# Altium schematic symbol library Vishay Lite-On Discrete Diode.SchLib: 290 symbols (part 3 of 3)
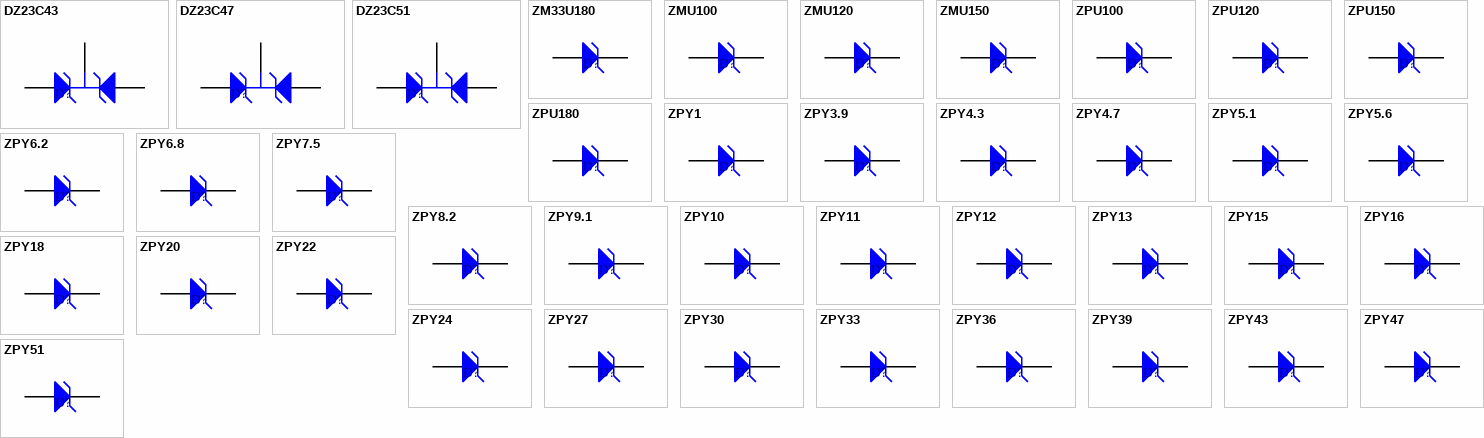
[diagram p9: symbols DZ23C43 to ZPY51]

## ZMU120
designator D?
High-Voltage Power Zener Diode; Published: 8-Jun-2000; LatestRevisionDate: 19-Mar-2004; LatestRevisionNote: Silkscreen size reduced.; DatasheetDocument: 16-May-1997; PackageDocument: May-1997; PackageReference: MELF; Publisher: Altium Limited; ComponentLink1Description: Manufacturer Link; ComponentLink1URL: http://www.vishay.com/
footprint MELF (Metal Electrode Face (MELF) Diode; Body 5 x 2.5 mm (LxDia))
simulation model ZMU120 (SUBCKT)
signal-integrity model ZMU120
pins: 1 A, 2 K

## ZMU150
designator D?
High-Voltage Power Zener Diode; Published: 8-Jun-2000; LatestRevisionDate: 19-Mar-2004; LatestRevisionNote: Silkscreen size reduced.; DatasheetDocument: 16-May-1997; PackageDocument: May-1997; PackageReference: MELF; Publisher: Altium Limited; ComponentLink1Description: Manufacturer Link; ComponentLink1URL: http://www.vishay.com/
footprint MELF (Metal Electrode Face (MELF) Diode; Body 5 x 2.5 mm (LxDia))
simulation model ZMU150 (SUBCKT)
signal-integrity model ZMU150
pins: 1 A, 2 K

## ZPU100
designator D?
High-Voltage Power Zener Diode; Published: 8-Jun-2000; LatestRevisionDate: 17-Jul-2002; LatestRevisionNote: Re-released for DXP Platform.; DatasheetDocument: 16-May-1997; PackageReference: DO-41A; Publisher: Altium Limited; Code_JEDEC: DO-204-AM; ComponentLink1Description: Manufacturer Link; ComponentLink1URL: http://www.vishay.com/
footprint DO-41A (Diode, Axial; Body 3.9 x 2.5 mm (LxDia. max), Lead Dia. 0.8 mm (max))
simulation model ZPU100 (SUBCKT)
signal-integrity model ZPU100
pins: 1 A, 2 K

## ZPU120
designator D?
High-Voltage Power Zener Diode; Published: 8-Jun-2000; LatestRevisionDate: 17-Jul-2002; LatestRevisionNote: Re-released for DXP Platform.; DatasheetDocument: 16-May-1997; PackageReference: DO-41A; Publisher: Altium Limited; Code_JEDEC: DO-204-AM; ComponentLink1Description: Manufacturer Link; ComponentLink1URL: http://www.vishay.com/
footprint DO-41A (Diode, Axial; Body 3.9 x 2.5 mm (LxDia. max), Lead Dia. 0.8 mm (max))
simulation model ZPU120 (SUBCKT)
signal-integrity model ZPU120
pins: 1 A, 2 K

## ZPU150
designator D?
High-Voltage Power Zener Diode; Published: 8-Jun-2000; LatestRevisionDate: 17-Jul-2002; LatestRevisionNote: Re-released for DXP Platform.; DatasheetDocument: 16-May-1997; PackageReference: DO-41A; Publisher: Altium Limited; Code_JEDEC: DO-204-AM; ComponentLink1Description: Manufacturer Link; ComponentLink1URL: http://www.vishay.com/
footprint DO-41A (Diode, Axial; Body 3.9 x 2.5 mm (LxDia. max), Lead Dia. 0.8 mm (max))
simulation model ZPU150 (SUBCKT)
signal-integrity model ZPU150
pins: 1 A, 2 K

## ZPU180
designator D?
High-Voltage Power Zener Diode; Published: 8-Jun-2000; LatestRevisionDate: 17-Jul-2002; LatestRevisionNote: Re-released for DXP Platform.; DatasheetDocument: 16-May-1997; PackageReference: DO-41A; Publisher: Altium Limited; Code_JEDEC: DO-204-AM; ComponentLink1Description: Manufacturer Link; ComponentLink1URL: http://www.vishay.com/
footprint DO-41A (Diode, Axial; Body 3.9 x 2.5 mm (LxDia. max), Lead Dia. 0.8 mm (max))
simulation model ZPU180 (SUBCKT)
signal-integrity model ZPU180
pins: 1 A, 2 K

## ZPY1
designator D?
1.3 Watt Power Zener Diode; Published: 8-Jun-2000; LatestRevisionDate: 17-Jul-2002; LatestRevisionNote: Re-released for DXP Platform.; DatasheetDocument: 16-May-1997; PackageReference: DO-41B; Publisher: Altium Limited; Code_JEDEC: DO-204-AL; ComponentLink1Description: Manufacturer Link; ComponentLink1URL: http://www.vishay.com/
footprint DO-41B (Diode, Axial; Body 5.2 x 2.7 mm (LxDia. max), Lead Dia. 0.86 mm (max))
simulation model ZPY1 (SUBCKT)
signal-integrity model ZPY1
pins: 1 A, 2 K

## ZPY3.9
designator D?
1.3 Watt Power Zener Diode; Published: 8-Jun-2000; LatestRevisionDate: 17-Jul-2002; LatestRevisionNote: Re-released for DXP Platform.; DatasheetDocument: 16-May-1997; PackageReference: DO-41B; Publisher: Altium Limited; Code_JEDEC: DO-204-AL; ComponentLink1Description: Manufacturer Link; ComponentLink1URL: http://www.vishay.com/
footprint DO-41B (Diode, Axial; Body 5.2 x 2.7 mm (LxDia. max), Lead Dia. 0.86 mm (max))
simulation model ZPY3_9 (SUBCKT)
signal-integrity model ZPY3.9
pins: 1 A, 2 K

## ZPY4.3
designator D?
1.3 Watt Power Zener Diode; Published: 8-Jun-2000; LatestRevisionDate: 17-Jul-2002; LatestRevisionNote: Re-released for DXP Platform.; DatasheetDocument: 16-May-1997; PackageReference: DO-41B; Publisher: Altium Limited; Code_JEDEC: DO-204-AL; ComponentLink1Description: Manufacturer Link; ComponentLink1URL: http://www.vishay.com/
footprint DO-41B (Diode, Axial; Body 5.2 x 2.7 mm (LxDia. max), Lead Dia. 0.86 mm (max))
simulation model ZPY4_3 (SUBCKT)
signal-integrity model ZPY4.3
pins: 1 A, 2 K

## ZPY4.7
designator D?
1.3 Watt Power Zener Diode; Published: 8-Jun-2000; LatestRevisionDate: 17-Jul-2002; LatestRevisionNote: Re-released for DXP Platform.; DatasheetDocument: 16-May-1997; PackageReference: DO-41B; Publisher: Altium Limited; Code_JEDEC: DO-204-AL; ComponentLink1Description: Manufacturer Link; ComponentLink1URL: http://www.vishay.com/
footprint DO-41B (Diode, Axial; Body 5.2 x 2.7 mm (LxDia. max), Lead Dia. 0.86 mm (max))
simulation model ZPY4_7 (SUBCKT)
signal-integrity model ZPY4.7
pins: 1 A, 2 K

## ZPY5.1
designator D?
1.3 Watt Power Zener Diode; Published: 8-Jun-2000; LatestRevisionDate: 17-Jul-2002; LatestRevisionNote: Re-released for DXP Platform.; DatasheetDocument: 16-May-1997; PackageReference: DO-41B; Publisher: Altium Limited; Code_JEDEC: DO-204-AL; ComponentLink1Description: Manufacturer Link; ComponentLink1URL: http://www.vishay.com/
footprint DO-41B (Diode, Axial; Body 5.2 x 2.7 mm (LxDia. max), Lead Dia. 0.86 mm (max))
simulation model ZPY5_1 (SUBCKT)
signal-integrity model ZPY5.1
pins: 1 A, 2 K

## ZPY5.6
designator D?
1.3 Watt Power Zener Diode; Published: 8-Jun-2000; LatestRevisionDate: 17-Jul-2002; LatestRevisionNote: Re-released for DXP Platform.; DatasheetDocument: 16-May-1997; PackageReference: DO-41B; Publisher: Altium Limited; Code_JEDEC: DO-204-AL; ComponentLink1Description: Manufacturer Link; ComponentLink1URL: http://www.vishay.com/
footprint DO-41B (Diode, Axial; Body 5.2 x 2.7 mm (LxDia. max), Lead Dia. 0.86 mm (max))
simulation model ZPY5_6 (SUBCKT)
signal-integrity model ZPY5.6
pins: 1 A, 2 K

## ZPY6.2
designator D?
1.3 Watt Power Zener Diode; Published: 8-Jun-2000; LatestRevisionDate: 17-Jul-2002; LatestRevisionNote: Re-released for DXP Platform.; DatasheetDocument: 16-May-1997; PackageReference: DO-41B; Publisher: Altium Limited; Code_JEDEC: DO-204-AL; ComponentLink1Description: Manufacturer Link; ComponentLink1URL: http://www.vishay.com/
footprint DO-41B (Diode, Axial; Body 5.2 x 2.7 mm (LxDia. max), Lead Dia. 0.86 mm (max))
simulation model ZPY6_2 (SUBCKT)
signal-integrity model ZPY6.2
pins: 1 A, 2 K

## ZPY6.8
designator D?
1.3 Watt Power Zener Diode; Published: 8-Jun-2000; LatestRevisionDate: 17-Jul-2002; LatestRevisionNote: Re-released for DXP Platform.; DatasheetDocument: 16-May-1997; PackageReference: DO-41B; Publisher: Altium Limited; Code_JEDEC: DO-204-AL; ComponentLink1Description: Manufacturer Link; ComponentLink1URL: http://www.vishay.com/
footprint DO-41B (Diode, Axial; Body 5.2 x 2.7 mm (LxDia. max), Lead Dia. 0.86 mm (max))
simulation model ZPY6_8 (SUBCKT)
signal-integrity model ZPY6.8
pins: 1 A, 2 K

## ZPY7.5
designator D?
1.3 Watt Power Zener Diode; Published: 8-Jun-2000; LatestRevisionDate: 17-Jul-2002; LatestRevisionNote: Re-released for DXP Platform.; DatasheetDocument: 16-May-1997; PackageReference: DO-41B; Publisher: Altium Limited; Code_JEDEC: DO-204-AL; ComponentLink1Description: Manufacturer Link; ComponentLink1URL: http://www.vishay.com/
footprint DO-41B (Diode, Axial; Body 5.2 x 2.7 mm (LxDia. max), Lead Dia. 0.86 mm (max))
simulation model ZPY7_5 (SUBCKT)
signal-integrity model ZPY7.5
pins: 1 A, 2 K

## ZPY8.2
designator D?
1.3 Watt Power Zener Diode; Published: 8-Jun-2000; LatestRevisionDate: 17-Jul-2002; LatestRevisionNote: Re-released for DXP Platform.; DatasheetDocument: 16-May-1997; PackageReference: DO-41B; Publisher: Altium Limited; Code_JEDEC: DO-204-AL; ComponentLink1Description: Manufacturer Link; ComponentLink1URL: http://www.vishay.com/
footprint DO-41B (Diode, Axial; Body 5.2 x 2.7 mm (LxDia. max), Lead Dia. 0.86 mm (max))
simulation model ZPY8_2 (SUBCKT)
signal-integrity model ZPY8.2
pins: 1 A, 2 K

## ZPY9.1
designator D?
1.3 Watt Power Zener Diode; Published: 8-Jun-2000; LatestRevisionDate: 17-Jul-2002; LatestRevisionNote: Re-released for DXP Platform.; DatasheetDocument: 16-May-1997; PackageReference: DO-41B; Publisher: Altium Limited; Code_JEDEC: DO-204-AL; ComponentLink1Description: Manufacturer Link; ComponentLink1URL: http://www.vishay.com/
footprint DO-41B (Diode, Axial; Body 5.2 x 2.7 mm (LxDia. max), Lead Dia. 0.86 mm (max))
simulation model ZPY9_1 (SUBCKT)
signal-integrity model ZPY9.1
pins: 1 A, 2 K

## ZPY10
designator D?
1.3 Watt Power Zener Diode; Published: 8-Jun-2000; LatestRevisionDate: 17-Jul-2002; LatestRevisionNote: Re-released for DXP Platform.; DatasheetDocument: 16-May-1997; PackageReference: DO-41B; Publisher: Altium Limited; Code_JEDEC: DO-204-AL; ComponentLink1Description: Manufacturer Link; ComponentLink1URL: http://www.vishay.com/
footprint DO-41B (Diode, Axial; Body 5.2 x 2.7 mm (LxDia. max), Lead Dia. 0.86 mm (max))
simulation model ZPY10 (SUBCKT)
signal-integrity model ZPY10
pins: 1 A, 2 K

## ZPY11
designator D?
1.3 Watt Power Zener Diode; Published: 8-Jun-2000; LatestRevisionDate: 17-Jul-2002; LatestRevisionNote: Re-released for DXP Platform.; DatasheetDocument: 16-May-1997; PackageReference: DO-41B; Publisher: Altium Limited; Code_JEDEC: DO-204-AL; ComponentLink1Description: Manufacturer Link; ComponentLink1URL: http://www.vishay.com/
footprint DO-41B (Diode, Axial; Body 5.2 x 2.7 mm (LxDia. max), Lead Dia. 0.86 mm (max))
simulation model ZPY11 (SUBCKT)
signal-integrity model ZPY11
pins: 1 A, 2 K

## ZPY12
designator D?
1.3 Watt Power Zener Diode; Published: 8-Jun-2000; LatestRevisionDate: 17-Jul-2002; LatestRevisionNote: Re-released for DXP Platform.; DatasheetDocument: 16-May-1997; PackageReference: DO-41B; Publisher: Altium Limited; Code_JEDEC: DO-204-AL; ComponentLink1Description: Manufacturer Link; ComponentLink1URL: http://www.vishay.com/
footprint DO-41B (Diode, Axial; Body 5.2 x 2.7 mm (LxDia. max), Lead Dia. 0.86 mm (max))
simulation model ZPY12 (SUBCKT)
signal-integrity model ZPY12
pins: 1 A, 2 K

## ZPY13
designator D?
1.3 Watt Power Zener Diode; Published: 8-Jun-2000; LatestRevisionDate: 17-Jul-2002; LatestRevisionNote: Re-released for DXP Platform.; DatasheetDocument: 16-May-1997; PackageReference: DO-41B; Publisher: Altium Limited; Code_JEDEC: DO-204-AL; ComponentLink1Description: Manufacturer Link; ComponentLink1URL: http://www.vishay.com/
footprint DO-41B (Diode, Axial; Body 5.2 x 2.7 mm (LxDia. max), Lead Dia. 0.86 mm (max))
simulation model ZPY13 (SUBCKT)
signal-integrity model ZPY13
pins: 1 A, 2 K

## ZPY15
designator D?
1.3 Watt Power Zener Diode; Published: 8-Jun-2000; LatestRevisionDate: 17-Jul-2002; LatestRevisionNote: Re-released for DXP Platform.; DatasheetDocument: 16-May-1997; PackageReference: DO-41B; Publisher: Altium Limited; Code_JEDEC: DO-204-AL; ComponentLink1Description: Manufacturer Link; ComponentLink1URL: http://www.vishay.com/
footprint DO-41B (Diode, Axial; Body 5.2 x 2.7 mm (LxDia. max), Lead Dia. 0.86 mm (max))
simulation model ZPY15 (SUBCKT)
signal-integrity model ZPY15
pins: 1 A, 2 K

## ZPY16
designator D?
1.3 Watt Power Zener Diode; Published: 8-Jun-2000; LatestRevisionDate: 17-Jul-2002; LatestRevisionNote: Re-released for DXP Platform.; DatasheetDocument: 16-May-1997; PackageReference: DO-41B; Publisher: Altium Limited; Code_JEDEC: DO-204-AL; ComponentLink1Description: Manufacturer Link; ComponentLink1URL: http://www.vishay.com/
footprint DO-41B (Diode, Axial; Body 5.2 x 2.7 mm (LxDia. max), Lead Dia. 0.86 mm (max))
simulation model ZPY16 (SUBCKT)
signal-integrity model ZPY16
pins: 1 A, 2 K

## ZPY18
designator D?
1.3 Watt Power Zener Diode; Published: 8-Jun-2000; LatestRevisionDate: 17-Jul-2002; LatestRevisionNote: Re-released for DXP Platform.; DatasheetDocument: 16-May-1997; PackageReference: DO-41B; Publisher: Altium Limited; Code_JEDEC: DO-204-AL; ComponentLink1Description: Manufacturer Link; ComponentLink1URL: http://www.vishay.com/
footprint DO-41B (Diode, Axial; Body 5.2 x 2.7 mm (LxDia. max), Lead Dia. 0.86 mm (max))
simulation model ZPY18 (SUBCKT)
signal-integrity model ZPY18
pins: 1 A, 2 K

## ZPY20
designator D?
1.3 Watt Power Zener Diode; Published: 8-Jun-2000; LatestRevisionDate: 17-Jul-2002; LatestRevisionNote: Re-released for DXP Platform.; DatasheetDocument: 16-May-1997; PackageReference: DO-41B; Publisher: Altium Limited; Code_JEDEC: DO-204-AL; ComponentLink1Description: Manufacturer Link; ComponentLink1URL: http://www.vishay.com/
footprint DO-41B (Diode, Axial; Body 5.2 x 2.7 mm (LxDia. max), Lead Dia. 0.86 mm (max))
simulation model ZPY20 (SUBCKT)
signal-integrity model ZPY20
pins: 1 A, 2 K

## ZPY22
designator D?
1.3 Watt Power Zener Diode; Published: 8-Jun-2000; LatestRevisionDate: 17-Jul-2002; LatestRevisionNote: Re-released for DXP Platform.; DatasheetDocument: 16-May-1997; PackageReference: DO-41B; Publisher: Altium Limited; Code_JEDEC: DO-204-AL; ComponentLink1Description: Manufacturer Link; ComponentLink1URL: http://www.vishay.com/
footprint DO-41B (Diode, Axial; Body 5.2 x 2.7 mm (LxDia. max), Lead Dia. 0.86 mm (max))
simulation model ZPY22 (SUBCKT)
signal-integrity model ZPY22
pins: 1 A, 2 K

## ZPY24
designator D?
1.3 Watt Power Zener Diode; Published: 8-Jun-2000; LatestRevisionDate: 17-Jul-2002; LatestRevisionNote: Re-released for DXP Platform.; DatasheetDocument: 16-May-1997; PackageReference: DO-41B; Publisher: Altium Limited; Code_JEDEC: DO-204-AL; ComponentLink1Description: Manufacturer Link; ComponentLink1URL: http://www.vishay.com/
footprint DO-41B (Diode, Axial; Body 5.2 x 2.7 mm (LxDia. max), Lead Dia. 0.86 mm (max))
simulation model ZPY24 (SUBCKT)
signal-integrity model ZPY24
pins: 1 A, 2 K

## ZPY27
designator D?
1.3 Watt Power Zener Diode; Published: 8-Jun-2000; LatestRevisionDate: 17-Jul-2002; LatestRevisionNote: Re-released for DXP Platform.; DatasheetDocument: 16-May-1997; PackageReference: DO-41B; Publisher: Altium Limited; Code_JEDEC: DO-204-AL; ComponentLink1Description: Manufacturer Link; ComponentLink1URL: http://www.vishay.com/
footprint DO-41B (Diode, Axial; Body 5.2 x 2.7 mm (LxDia. max), Lead Dia. 0.86 mm (max))
simulation model ZPY27 (SUBCKT)
signal-integrity model ZPY27
pins: 1 A, 2 K

## ZPY30
designator D?
1.3 Watt Power Zener Diode; Published: 8-Jun-2000; LatestRevisionDate: 17-Jul-2002; LatestRevisionNote: Re-released for DXP Platform.; DatasheetDocument: 16-May-1997; PackageReference: DO-41B; Publisher: Altium Limited; Code_JEDEC: DO-204-AL; ComponentLink1Description: Manufacturer Link; ComponentLink1URL: http://www.vishay.com/
footprint DO-41B (Diode, Axial; Body 5.2 x 2.7 mm (LxDia. max), Lead Dia. 0.86 mm (max))
simulation model ZPY30 (SUBCKT)
signal-integrity model ZPY30
pins: 1 A, 2 K

## ZPY33
designator D?
1.3 Watt Power Zener Diode; Published: 8-Jun-2000; LatestRevisionDate: 17-Jul-2002; LatestRevisionNote: Re-released for DXP Platform.; DatasheetDocument: 16-May-1997; PackageReference: DO-41B; Publisher: Altium Limited; Code_JEDEC: DO-204-AL; ComponentLink1Description: Manufacturer Link; ComponentLink1URL: http://www.vishay.com/
footprint DO-41B (Diode, Axial; Body 5.2 x 2.7 mm (LxDia. max), Lead Dia. 0.86 mm (max))
simulation model ZPY33 (SUBCKT)
signal-integrity model ZPY33
pins: 1 A, 2 K

## ZPY36
designator D?
1.3 Watt Power Zener Diode; Published: 8-Jun-2000; LatestRevisionDate: 17-Jul-2002; LatestRevisionNote: Re-released for DXP Platform.; DatasheetDocument: 16-May-1997; PackageReference: DO-41B; Publisher: Altium Limited; Code_JEDEC: DO-204-AL; ComponentLink1Description: Manufacturer Link; ComponentLink1URL: http://www.vishay.com/
footprint DO-41B (Diode, Axial; Body 5.2 x 2.7 mm (LxDia. max), Lead Dia. 0.86 mm (max))
simulation model ZPY36 (SUBCKT)
signal-integrity model ZPY36
pins: 1 A, 2 K

## ZPY39
designator D?
1.3 Watt Power Zener Diode; Published: 8-Jun-2000; LatestRevisionDate: 17-Jul-2002; LatestRevisionNote: Re-released for DXP Platform.; DatasheetDocument: 16-May-1997; PackageReference: DO-41B; Publisher: Altium Limited; Code_JEDEC: DO-204-AL; ComponentLink1Description: Manufacturer Link; ComponentLink1URL: http://www.vishay.com/
footprint DO-41B (Diode, Axial; Body 5.2 x 2.7 mm (LxDia. max), Lead Dia. 0.86 mm (max))
simulation model ZPY39 (SUBCKT)
signal-integrity model ZPY39
pins: 1 A, 2 K

## ZPY43
designator D?
1.3 Watt Power Zener Diode; Published: 8-Jun-2000; LatestRevisionDate: 17-Jul-2002; LatestRevisionNote: Re-released for DXP Platform.; DatasheetDocument: 16-May-1997; PackageReference: DO-41B; Publisher: Altium Limited; Code_JEDEC: DO-204-AL; ComponentLink1Description: Manufacturer Link; ComponentLink1URL: http://www.vishay.com/
footprint DO-41B (Diode, Axial; Body 5.2 x 2.7 mm (LxDia. max), Lead Dia. 0.86 mm (max))
simulation model ZPY43 (SUBCKT)
signal-integrity model ZPY43
pins: 1 A, 2 K

## ZPY47
designator D?
1.3 Watt Power Zener Diode; Published: 8-Jun-2000; LatestRevisionDate: 17-Jul-2002; LatestRevisionNote: Re-released for DXP Platform.; DatasheetDocument: 16-May-1997; PackageReference: DO-41B; Publisher: Altium Limited; Code_JEDEC: DO-204-AL; ComponentLink1Description: Manufacturer Link; ComponentLink1URL: http://www.vishay.com/
footprint DO-41B (Diode, Axial; Body 5.2 x 2.7 mm (LxDia. max), Lead Dia. 0.86 mm (max))
simulation model ZPY47 (SUBCKT)
signal-integrity model ZPY47
pins: 1 A, 2 K

## ZPY51
designator D?
1.3 Watt Power Zener Diode; Published: 8-Jun-2000; LatestRevisionDate: 17-Jul-2002; LatestRevisionNote: Re-released for DXP Platform.; DatasheetDocument: 16-May-1997; PackageReference: DO-41B; Publisher: Altium Limited; Code_JEDEC: DO-204-AL; ComponentLink1Description: Manufacturer Link; ComponentLink1URL: http://www.vishay.com/
footprint DO-41B (Diode, Axial; Body 5.2 x 2.7 mm (LxDia. max), Lead Dia. 0.86 mm (max))
simulation model ZPY51 (SUBCKT)
signal-integrity model ZPY51
pins: 1 A, 2 K

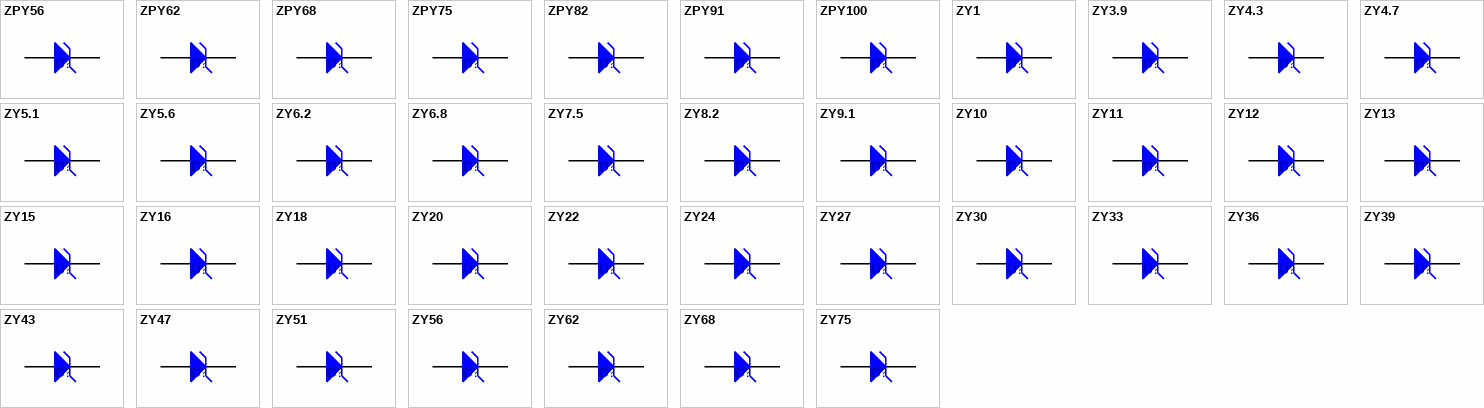
[diagram p6: symbols ZPY56 to ZY75]

## ZPY56
designator D?
1.3 Watt Power Zener Diode; Published: 8-Jun-2000; LatestRevisionDate: 17-Jul-2002; LatestRevisionNote: Re-released for DXP Platform.; DatasheetDocument: 16-May-1997; PackageReference: DO-41B; Publisher: Altium Limited; Code_JEDEC: DO-204-AL; ComponentLink1Description: Manufacturer Link; ComponentLink1URL: http://www.vishay.com/
footprint DO-41B (Diode, Axial; Body 5.2 x 2.7 mm (LxDia. max), Lead Dia. 0.86 mm (max))
simulation model ZPY56 (SUBCKT)
signal-integrity model ZPY56
pins: 1 A, 2 K

## ZPY62
designator D?
1.3 Watt Power Zener Diode; Published: 8-Jun-2000; LatestRevisionDate: 17-Jul-2002; LatestRevisionNote: Re-released for DXP Platform.; DatasheetDocument: 16-May-1997; PackageReference: DO-41B; Publisher: Altium Limited; Code_JEDEC: DO-204-AL; ComponentLink1Description: Manufacturer Link; ComponentLink1URL: http://www.vishay.com/
footprint DO-41B (Diode, Axial; Body 5.2 x 2.7 mm (LxDia. max), Lead Dia. 0.86 mm (max))
simulation model ZPY62 (SUBCKT)
signal-integrity model ZPY62
pins: 1 A, 2 K

## ZPY68
designator D?
1.3 Watt Power Zener Diode; Published: 8-Jun-2000; LatestRevisionDate: 17-Jul-2002; LatestRevisionNote: Re-released for DXP Platform.; DatasheetDocument: 16-May-1997; PackageReference: DO-41B; Publisher: Altium Limited; Code_JEDEC: DO-204-AL; ComponentLink1Description: Manufacturer Link; ComponentLink1URL: http://www.vishay.com/
footprint DO-41B (Diode, Axial; Body 5.2 x 2.7 mm (LxDia. max), Lead Dia. 0.86 mm (max))
simulation model ZPY68 (SUBCKT)
signal-integrity model ZPY68
pins: 1 A, 2 K

## ZPY75
designator D?
1.3 Watt Power Zener Diode; Published: 8-Jun-2000; LatestRevisionDate: 17-Jul-2002; LatestRevisionNote: Re-released for DXP Platform.; DatasheetDocument: 16-May-1997; PackageReference: DO-41B; Publisher: Altium Limited; Code_JEDEC: DO-204-AL; ComponentLink1Description: Manufacturer Link; ComponentLink1URL: http://www.vishay.com/
footprint DO-41B (Diode, Axial; Body 5.2 x 2.7 mm (LxDia. max), Lead Dia. 0.86 mm (max))
simulation model ZPY75 (SUBCKT)
signal-integrity model ZPY75
pins: 1 A, 2 K

## ZPY82
designator D?
1.3 Watt Power Zener Diode; Published: 8-Jun-2000; LatestRevisionDate: 17-Jul-2002; LatestRevisionNote: Re-released for DXP Platform.; DatasheetDocument: 16-May-1997; PackageReference: DO-41B; Publisher: Altium Limited; Code_JEDEC: DO-204-AL; ComponentLink1Description: Manufacturer Link; ComponentLink1URL: http://www.vishay.com/
footprint DO-41B (Diode, Axial; Body 5.2 x 2.7 mm (LxDia. max), Lead Dia. 0.86 mm (max))
simulation model ZPY82 (SUBCKT)
signal-integrity model ZPY82
pins: 1 A, 2 K

## ZPY91
designator D?
1.3 Watt Power Zener Diode; Published: 8-Jun-2000; LatestRevisionDate: 17-Jul-2002; LatestRevisionNote: Re-released for DXP Platform.; DatasheetDocument: 16-May-1997; PackageReference: DO-41B; Publisher: Altium Limited; Code_JEDEC: DO-204-AL; ComponentLink1Description: Manufacturer Link; ComponentLink1URL: http://www.vishay.com/
footprint DO-41B (Diode, Axial; Body 5.2 x 2.7 mm (LxDia. max), Lead Dia. 0.86 mm (max))
simulation model ZPY91 (SUBCKT)
signal-integrity model ZPY91
pins: 1 A, 2 K

## ZPY100
designator D?
1.3 Watt Power Zener Diode; Published: 8-Jun-2000; LatestRevisionDate: 17-Jul-2002; LatestRevisionNote: Re-released for DXP Platform.; DatasheetDocument: 16-May-1997; PackageReference: DO-41B; Publisher: Altium Limited; Code_JEDEC: DO-204-AL; ComponentLink1Description: Manufacturer Link; ComponentLink1URL: http://www.vishay.com/
footprint DO-41B (Diode, Axial; Body 5.2 x 2.7 mm (LxDia. max), Lead Dia. 0.86 mm (max))
simulation model ZPY100 (SUBCKT)
signal-integrity model ZPY100
pins: 1 A, 2 K

## ZY1
designator D?
2.0 Watt Zener Diode; Published: 8-Jun-2000; LatestRevisionDate: 17-Jul-2002; LatestRevisionNote: Re-released for DXP Platform.; DatasheetDocument: 1995; PackageReference: DO-41B; Publisher: Altium Limited; Code_JEDEC: DO-204-AL; ComponentLink1Description: Manufacturer Link; ComponentLink1URL: http://www.vishay.com/
footprint DO-41B (Diode, Axial; Body 5.2 x 2.7 mm (LxDia. max), Lead Dia. 0.86 mm (max))
simulation model ZY1 (SUBCKT)
signal-integrity model ZY1
pins: 1 A, 2 K

## ZY3.9
designator D?
2.0 Watt Zener Diode; Published: 8-Jun-2000; LatestRevisionDate: 17-Jul-2002; LatestRevisionNote: Re-released for DXP Platform.; DatasheetDocument: 1995; PackageReference: DO-41B; Publisher: Altium Limited; Code_JEDEC: DO-204-AL; ComponentLink1Description: Manufacturer Link; ComponentLink1URL: http://www.vishay.com/
footprint DO-41B (Diode, Axial; Body 5.2 x 2.7 mm (LxDia. max), Lead Dia. 0.86 mm (max))
simulation model ZY3_9 (SUBCKT)
signal-integrity model ZY3.9
pins: 1 A, 2 K

## ZY4.3
designator D?
2.0 Watt Zener Diode; Published: 8-Jun-2000; LatestRevisionDate: 17-Jul-2002; LatestRevisionNote: Re-released for DXP Platform.; DatasheetDocument: 1995; PackageReference: DO-41B; Publisher: Altium Limited; Code_JEDEC: DO-204-AL; ComponentLink1Description: Manufacturer Link; ComponentLink1URL: http://www.vishay.com/
footprint DO-41B (Diode, Axial; Body 5.2 x 2.7 mm (LxDia. max), Lead Dia. 0.86 mm (max))
simulation model ZY4_3 (SUBCKT)
signal-integrity model ZY4.3
pins: 1 A, 2 K

## ZY4.7
designator D?
2.0 Watt Zener Diode; Published: 8-Jun-2000; LatestRevisionDate: 17-Jul-2002; LatestRevisionNote: Re-released for DXP Platform.; DatasheetDocument: 1995; PackageReference: DO-41B; Publisher: Altium Limited; Code_JEDEC: DO-204-AL; ComponentLink1Description: Manufacturer Link; ComponentLink1URL: http://www.vishay.com/
footprint DO-41B (Diode, Axial; Body 5.2 x 2.7 mm (LxDia. max), Lead Dia. 0.86 mm (max))
simulation model ZY4_7 (SUBCKT)
signal-integrity model ZY4.7
pins: 1 A, 2 K

## ZY5.1
designator D?
2.0 Watt Zener Diode; Published: 8-Jun-2000; LatestRevisionDate: 17-Jul-2002; LatestRevisionNote: Re-released for DXP Platform.; DatasheetDocument: 1995; PackageReference: DO-41B; Publisher: Altium Limited; Code_JEDEC: DO-204-AL; ComponentLink1Description: Manufacturer Link; ComponentLink1URL: http://www.vishay.com/
footprint DO-41B (Diode, Axial; Body 5.2 x 2.7 mm (LxDia. max), Lead Dia. 0.86 mm (max))
simulation model ZY5_1 (SUBCKT)
signal-integrity model ZY5.1
pins: 1 A, 2 K

## ZY5.6
designator D?
2.0 Watt Zener Diode; Published: 8-Jun-2000; LatestRevisionDate: 17-Jul-2002; LatestRevisionNote: Re-released for DXP Platform.; DatasheetDocument: 1995; PackageReference: DO-41B; Publisher: Altium Limited; Code_JEDEC: DO-204-AL; ComponentLink1Description: Manufacturer Link; ComponentLink1URL: http://www.vishay.com/
footprint DO-41B (Diode, Axial; Body 5.2 x 2.7 mm (LxDia. max), Lead Dia. 0.86 mm (max))
simulation model ZY5_6 (SUBCKT)
signal-integrity model ZY5.6
pins: 1 A, 2 K

## ZY6.2
designator D?
2.0 Watt Zener Diode; Published: 8-Jun-2000; LatestRevisionDate: 17-Jul-2002; LatestRevisionNote: Re-released for DXP Platform.; DatasheetDocument: 1995; PackageReference: DO-41B; Publisher: Altium Limited; Code_JEDEC: DO-204-AL; ComponentLink1Description: Manufacturer Link; ComponentLink1URL: http://www.vishay.com/
footprint DO-41B (Diode, Axial; Body 5.2 x 2.7 mm (LxDia. max), Lead Dia. 0.86 mm (max))
simulation model ZY6_2 (SUBCKT)
signal-integrity model ZY6.2
pins: 1 A, 2 K

## ZY6.8
designator D?
2.0 Watt Zener Diode; Published: 8-Jun-2000; LatestRevisionDate: 17-Jul-2002; LatestRevisionNote: Re-released for DXP Platform.; DatasheetDocument: 1995; PackageReference: DO-41B; Publisher: Altium Limited; Code_JEDEC: DO-204-AL; ComponentLink1Description: Manufacturer Link; ComponentLink1URL: http://www.vishay.com/
footprint DO-41B (Diode, Axial; Body 5.2 x 2.7 mm (LxDia. max), Lead Dia. 0.86 mm (max))
simulation model ZY6_8 (SUBCKT)
signal-integrity model ZY6.8
pins: 1 A, 2 K

## ZY7.5
designator D?
2.0 Watt Zener Diode; Published: 8-Jun-2000; LatestRevisionDate: 17-Jul-2002; LatestRevisionNote: Re-released for DXP Platform.; DatasheetDocument: 1995; PackageReference: DO-41B; Publisher: Altium Limited; Code_JEDEC: DO-204-AL; ComponentLink1Description: Manufacturer Link; ComponentLink1URL: http://www.vishay.com/
footprint DO-41B (Diode, Axial; Body 5.2 x 2.7 mm (LxDia. max), Lead Dia. 0.86 mm (max))
simulation model ZY7_5 (SUBCKT)
signal-integrity model ZY7.5
pins: 1 A, 2 K

## ZY8.2
designator D?
2.0 Watt Zener Diode; Published: 8-Jun-2000; LatestRevisionDate: 17-Jul-2002; LatestRevisionNote: Re-released for DXP Platform.; DatasheetDocument: 1995; PackageReference: DO-41B; Publisher: Altium Limited; Code_JEDEC: DO-204-AL; ComponentLink1Description: Manufacturer Link; ComponentLink1URL: http://www.vishay.com/
footprint DO-41B (Diode, Axial; Body 5.2 x 2.7 mm (LxDia. max), Lead Dia. 0.86 mm (max))
simulation model ZY8_2 (SUBCKT)
signal-integrity model ZY8.2
pins: 1 A, 2 K

## ZY9.1
designator D?
2.0 Watt Zener Diode; Published: 8-Jun-2000; LatestRevisionDate: 17-Jul-2002; LatestRevisionNote: Re-released for DXP Platform.; DatasheetDocument: 1995; PackageReference: DO-41B; Publisher: Altium Limited; Code_JEDEC: DO-204-AL; ComponentLink1Description: Manufacturer Link; ComponentLink1URL: http://www.vishay.com/
footprint DO-41B (Diode, Axial; Body 5.2 x 2.7 mm (LxDia. max), Lead Dia. 0.86 mm (max))
simulation model ZY9_1 (SUBCKT)
signal-integrity model ZY9.1
pins: 1 A, 2 K

## ZY10
designator D?
2.0 Watt Zener Diode; Published: 8-Jun-2000; LatestRevisionDate: 17-Jul-2002; LatestRevisionNote: Re-released for DXP Platform.; DatasheetDocument: 1995; PackageReference: DO-41B; Publisher: Altium Limited; Code_JEDEC: DO-204-AL; ComponentLink1Description: Manufacturer Link; ComponentLink1URL: http://www.vishay.com/
footprint DO-41B (Diode, Axial; Body 5.2 x 2.7 mm (LxDia. max), Lead Dia. 0.86 mm (max))
simulation model ZY10 (SUBCKT)
signal-integrity model ZY10
pins: 1 A, 2 K

## ZY11
designator D?
Silicon Power Zener Diode; Published: 8-Jun-2000; LatestRevisionDate: 17-Jul-2002; LatestRevisionNote: Re-released for DXP Platform.; DatasheetDocument: 16-May-1997; PackageReference: DO-41B; Publisher: Altium Limited; Code_JEDEC: DO-204-AL; ComponentLink1Description: Manufacturer Link; ComponentLink1URL: http://www.vishay.com/
footprint DO-41B (Diode, Axial; Body 5.2 x 2.7 mm (LxDia. max), Lead Dia. 0.86 mm (max))
simulation model ZY11 (SUBCKT)
signal-integrity model ZY11
pins: 1 A, 2 K

## ZY12
designator D?
Silicon Power Zener Diode; Published: 8-Jun-2000; LatestRevisionDate: 17-Jul-2002; LatestRevisionNote: Re-released for DXP Platform.; DatasheetDocument: 16-May-1997; PackageReference: DO-41B; Publisher: Altium Limited; Code_JEDEC: DO-204-AL; ComponentLink1Description: Manufacturer Link; ComponentLink1URL: http://www.vishay.com/
footprint DO-41B (Diode, Axial; Body 5.2 x 2.7 mm (LxDia. max), Lead Dia. 0.86 mm (max))
simulation model ZY12 (SUBCKT)
signal-integrity model ZY12
pins: 1 A, 2 K

## ZY13
designator D?
Silicon Power Zener Diode; Published: 8-Jun-2000; LatestRevisionDate: 17-Jul-2002; LatestRevisionNote: Re-released for DXP Platform.; DatasheetDocument: 16-May-1997; PackageReference: DO-41B; Publisher: Altium Limited; Code_JEDEC: DO-204-AL; ComponentLink1Description: Manufacturer Link; ComponentLink1URL: http://www.vishay.com/
footprint DO-41B (Diode, Axial; Body 5.2 x 2.7 mm (LxDia. max), Lead Dia. 0.86 mm (max))
simulation model ZY13 (SUBCKT)
signal-integrity model ZY13
pins: 1 A, 2 K

## ZY15
designator D?
Silicon Power Zener Diode; Published: 8-Jun-2000; LatestRevisionDate: 17-Jul-2002; LatestRevisionNote: Re-released for DXP Platform.; DatasheetDocument: 16-May-1997; PackageReference: DO-41B; Publisher: Altium Limited; Code_JEDEC: DO-204-AL; ComponentLink1Description: Manufacturer Link; ComponentLink1URL: http://www.vishay.com/
footprint DO-41B (Diode, Axial; Body 5.2 x 2.7 mm (LxDia. max), Lead Dia. 0.86 mm (max))
simulation model ZY15 (SUBCKT)
signal-integrity model ZY15
pins: 1 A, 2 K

## ZY16
designator D?
Silicon Power Zener Diode; Published: 8-Jun-2000; LatestRevisionDate: 17-Jul-2002; LatestRevisionNote: Re-released for DXP Platform.; DatasheetDocument: 16-May-1997; PackageReference: DO-41B; Publisher: Altium Limited; Code_JEDEC: DO-204-AL; ComponentLink1Description: Manufacturer Link; ComponentLink1URL: http://www.vishay.com/
footprint DO-41B (Diode, Axial; Body 5.2 x 2.7 mm (LxDia. max), Lead Dia. 0.86 mm (max))
simulation model ZY16 (SUBCKT)
signal-integrity model ZY16
pins: 1 A, 2 K

## ZY18
designator D?
Silicon Power Zener Diode; Published: 8-Jun-2000; LatestRevisionDate: 17-Jul-2002; LatestRevisionNote: Re-released for DXP Platform.; DatasheetDocument: 16-May-1997; PackageReference: DO-41B; Publisher: Altium Limited; Code_JEDEC: DO-204-AL; ComponentLink1Description: Manufacturer Link; ComponentLink1URL: http://www.vishay.com/
footprint DO-41B (Diode, Axial; Body 5.2 x 2.7 mm (LxDia. max), Lead Dia. 0.86 mm (max))
simulation model ZY18 (SUBCKT)
signal-integrity model ZY18
pins: 1 A, 2 K

## ZY20
designator D?
Silicon Power Zener Diode; Published: 8-Jun-2000; LatestRevisionDate: 17-Jul-2002; LatestRevisionNote: Re-released for DXP Platform.; DatasheetDocument: 16-May-1997; PackageReference: DO-41B; Publisher: Altium Limited; Code_JEDEC: DO-204-AL; ComponentLink1Description: Manufacturer Link; ComponentLink1URL: http://www.vishay.com/
footprint DO-41B (Diode, Axial; Body 5.2 x 2.7 mm (LxDia. max), Lead Dia. 0.86 mm (max))
simulation model ZY20 (SUBCKT)
signal-integrity model ZY20
pins: 1 A, 2 K

## ZY22
designator D?
Silicon Power Zener Diode; Published: 8-Jun-2000; LatestRevisionDate: 17-Jul-2002; LatestRevisionNote: Re-released for DXP Platform.; DatasheetDocument: 16-May-1997; PackageReference: DO-41B; Publisher: Altium Limited; Code_JEDEC: DO-204-AL; ComponentLink1Description: Manufacturer Link; ComponentLink1URL: http://www.vishay.com/
footprint DO-41B (Diode, Axial; Body 5.2 x 2.7 mm (LxDia. max), Lead Dia. 0.86 mm (max))
simulation model ZY22 (SUBCKT)
signal-integrity model ZY22
pins: 1 A, 2 K

## ZY24
designator D?
Silicon Power Zener Diode; Published: 8-Jun-2000; LatestRevisionDate: 17-Jul-2002; LatestRevisionNote: Re-released for DXP Platform.; DatasheetDocument: 16-May-1997; PackageReference: DO-41B; Publisher: Altium Limited; Code_JEDEC: DO-204-AL; ComponentLink1Description: Manufacturer Link; ComponentLink1URL: http://www.vishay.com/
footprint DO-41B (Diode, Axial; Body 5.2 x 2.7 mm (LxDia. max), Lead Dia. 0.86 mm (max))
simulation model ZY24 (SUBCKT)
signal-integrity model ZY24
pins: 1 A, 2 K

## ZY27
designator D?
Silicon Power Zener Diode; Published: 8-Jun-2000; LatestRevisionDate: 17-Jul-2002; LatestRevisionNote: Re-released for DXP Platform.; DatasheetDocument: 16-May-1997; PackageReference: DO-41B; Publisher: Altium Limited; Code_JEDEC: DO-204-AL; ComponentLink1Description: Manufacturer Link; ComponentLink1URL: http://www.vishay.com/
footprint DO-41B (Diode, Axial; Body 5.2 x 2.7 mm (LxDia. max), Lead Dia. 0.86 mm (max))
simulation model ZY27 (SUBCKT)
signal-integrity model ZY27
pins: 1 A, 2 K

## ZY30
designator D?
Silicon Power Zener Diode; Published: 8-Jun-2000; LatestRevisionDate: 17-Jul-2002; LatestRevisionNote: Re-released for DXP Platform.; DatasheetDocument: 16-May-1997; PackageReference: DO-41B; Publisher: Altium Limited; Code_JEDEC: DO-204-AL; ComponentLink1Description: Manufacturer Link; ComponentLink1URL: http://www.vishay.com/
footprint DO-41B (Diode, Axial; Body 5.2 x 2.7 mm (LxDia. max), Lead Dia. 0.86 mm (max))
simulation model ZY30 (SUBCKT)
signal-integrity model ZY30
pins: 1 A, 2 K

## ZY33
designator D?
Silicon Power Zener Diode; Published: 8-Jun-2000; LatestRevisionDate: 17-Jul-2002; LatestRevisionNote: Re-released for DXP Platform.; DatasheetDocument: 16-May-1997; PackageReference: DO-41B; Publisher: Altium Limited; Code_JEDEC: DO-204-AL; ComponentLink1Description: Manufacturer Link; ComponentLink1URL: http://www.vishay.com/
footprint DO-41B (Diode, Axial; Body 5.2 x 2.7 mm (LxDia. max), Lead Dia. 0.86 mm (max))
simulation model ZY33 (SUBCKT)
signal-integrity model ZY33
pins: 1 A, 2 K

## ZY36
designator D?
Silicon Power Zener Diode; Published: 8-Jun-2000; LatestRevisionDate: 17-Jul-2002; LatestRevisionNote: Re-released for DXP Platform.; DatasheetDocument: 16-May-1997; PackageReference: DO-41B; Publisher: Altium Limited; Code_JEDEC: DO-204-AL; ComponentLink1Description: Manufacturer Link; ComponentLink1URL: http://www.vishay.com/
footprint DO-41B (Diode, Axial; Body 5.2 x 2.7 mm (LxDia. max), Lead Dia. 0.86 mm (max))
simulation model ZY36 (SUBCKT)
signal-integrity model ZY36
pins: 1 A, 2 K

## ZY39
designator D?
Silicon Power Zener Diode; Published: 8-Jun-2000; LatestRevisionDate: 17-Jul-2002; LatestRevisionNote: Re-released for DXP Platform.; DatasheetDocument: 16-May-1997; PackageReference: DO-41B; Publisher: Altium Limited; Code_JEDEC: DO-204-AL; ComponentLink1Description: Manufacturer Link; ComponentLink1URL: http://www.vishay.com/
footprint DO-41B (Diode, Axial; Body 5.2 x 2.7 mm (LxDia. max), Lead Dia. 0.86 mm (max))
simulation model ZY39 (SUBCKT)
signal-integrity model ZY39
pins: 1 A, 2 K

## ZY43
designator D?
Silicon Power Zener Diode; Published: 8-Jun-2000; LatestRevisionDate: 17-Jul-2002; LatestRevisionNote: Re-released for DXP Platform.; DatasheetDocument: 16-May-1997; PackageReference: DO-41B; Publisher: Altium Limited; Code_JEDEC: DO-204-AL; ComponentLink1Description: Manufacturer Link; ComponentLink1URL: http://www.vishay.com/
footprint DO-41B (Diode, Axial; Body 5.2 x 2.7 mm (LxDia. max), Lead Dia. 0.86 mm (max))
simulation model ZY43 (SUBCKT)
signal-integrity model ZY43
pins: 1 A, 2 K

## ZY47
designator D?
Silicon Power Zener Diode; Published: 8-Jun-2000; LatestRevisionDate: 17-Jul-2002; LatestRevisionNote: Re-released for DXP Platform.; DatasheetDocument: 16-May-1997; PackageReference: DO-41B; Publisher: Altium Limited; Code_JEDEC: DO-204-AL; ComponentLink1Description: Manufacturer Link; ComponentLink1URL: http://www.vishay.com/
footprint DO-41B (Diode, Axial; Body 5.2 x 2.7 mm (LxDia. max), Lead Dia. 0.86 mm (max))
signal-integrity model ZY47
pins: 1 A, 2 K

## ZY51
designator D?
Silicon Power Zener Diode; Published: 8-Jun-2000; LatestRevisionDate: 17-Jul-2002; LatestRevisionNote: Re-released for DXP Platform.; DatasheetDocument: 16-May-1997; PackageReference: DO-41B; Publisher: Altium Limited; Code_JEDEC: DO-204-AL; ComponentLink1Description: Manufacturer Link; ComponentLink1URL: http://www.vishay.com/
footprint DO-41B (Diode, Axial; Body 5.2 x 2.7 mm (LxDia. max), Lead Dia. 0.86 mm (max))
simulation model ZY51 (SUBCKT)
signal-integrity model ZY51
pins: 1 A, 2 K

## ZY56
designator D?
Silicon Power Zener Diode; Published: 8-Jun-2000; LatestRevisionDate: 17-Jul-2002; LatestRevisionNote: Re-released for DXP Platform.; DatasheetDocument: 16-May-1997; PackageReference: DO-41B; Publisher: Altium Limited; Code_JEDEC: DO-204-AL; ComponentLink1Description: Manufacturer Link; ComponentLink1URL: http://www.vishay.com/
footprint DO-41B (Diode, Axial; Body 5.2 x 2.7 mm (LxDia. max), Lead Dia. 0.86 mm (max))
simulation model ZY56 (SUBCKT)
signal-integrity model ZY56
pins: 1 A, 2 K

## ZY62
designator D?
Silicon Power Zener Diode; Published: 8-Jun-2000; LatestRevisionDate: 17-Jul-2002; LatestRevisionNote: Re-released for DXP Platform.; DatasheetDocument: 16-May-1997; PackageReference: DO-41B; Publisher: Altium Limited; Code_JEDEC: DO-204-AL; ComponentLink1Description: Manufacturer Link; ComponentLink1URL: http://www.vishay.com/
footprint DO-41B (Diode, Axial; Body 5.2 x 2.7 mm (LxDia. max), Lead Dia. 0.86 mm (max))
simulation model ZY62 (SUBCKT)
signal-integrity model ZY62
pins: 1 A, 2 K

## ZY68
designator D?
Silicon Power Zener Diode; Published: 8-Jun-2000; LatestRevisionDate: 17-Jul-2002; LatestRevisionNote: Re-released for DXP Platform.; DatasheetDocument: 16-May-1997; PackageReference: DO-41B; Publisher: Altium Limited; Code_JEDEC: DO-204-AL; ComponentLink1Description: Manufacturer Link; ComponentLink1URL: http://www.vishay.com/
footprint DO-41B (Diode, Axial; Body 5.2 x 2.7 mm (LxDia. max), Lead Dia. 0.86 mm (max))
simulation model ZY68 (SUBCKT)
signal-integrity model ZY68
pins: 1 A, 2 K

## ZY75
designator D?
Silicon Power Zener Diode; Published: 8-Jun-2000; LatestRevisionDate: 17-Jul-2002; LatestRevisionNote: Re-released for DXP Platform.; DatasheetDocument: 16-May-1997; PackageReference: DO-41B; Publisher: Altium Limited; Code_JEDEC: DO-204-AL; ComponentLink1Description: Manufacturer Link; ComponentLink1URL: http://www.vishay.com/
footprint DO-41B (Diode, Axial; Body 5.2 x 2.7 mm (LxDia. max), Lead Dia. 0.86 mm (max))
simulation model ZY75 (SUBCKT)
signal-integrity model ZY75
pins: 1 A, 2 K

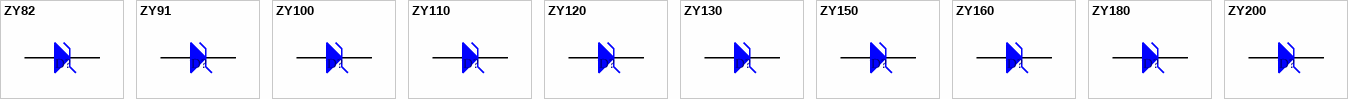
[diagram p7: symbols ZY82 to ZY200]

## ZY82
designator D?
Silicon Power Zener Diode; Published: 8-Jun-2000; LatestRevisionDate: 17-Jul-2002; LatestRevisionNote: Re-released for DXP Platform.; DatasheetDocument: 16-May-1997; PackageReference: DO-41B; Publisher: Altium Limited; Code_JEDEC: DO-204-AL; ComponentLink1Description: Manufacturer Link; ComponentLink1URL: http://www.vishay.com/
footprint DO-41B (Diode, Axial; Body 5.2 x 2.7 mm (LxDia. max), Lead Dia. 0.86 mm (max))
simulation model ZY82 (SUBCKT)
signal-integrity model ZY82
pins: 1 A, 2 K

## ZY91
designator D?
Silicon Power Zener Diode; Published: 8-Jun-2000; LatestRevisionDate: 17-Jul-2002; LatestRevisionNote: Re-released for DXP Platform.; DatasheetDocument: 16-May-1997; PackageReference: DO-41B; Publisher: Altium Limited; Code_JEDEC: DO-204-AL; ComponentLink1Description: Manufacturer Link; ComponentLink1URL: http://www.vishay.com/
footprint DO-41B (Diode, Axial; Body 5.2 x 2.7 mm (LxDia. max), Lead Dia. 0.86 mm (max))
simulation model ZY91 (SUBCKT)
signal-integrity model ZY91
pins: 1 A, 2 K

## ZY100
designator D?
Silicon Power Zener Diode; Published: 8-Jun-2000; LatestRevisionDate: 17-Jul-2002; LatestRevisionNote: Re-released for DXP Platform.; DatasheetDocument: 16-May-1997; PackageReference: DO-41B; Publisher: Altium Limited; Code_JEDEC: DO-204-AL; ComponentLink1Description: Manufacturer Link; ComponentLink1URL: http://www.vishay.com/
footprint DO-41B (Diode, Axial; Body 5.2 x 2.7 mm (LxDia. max), Lead Dia. 0.86 mm (max))
simulation model ZY100 (SUBCKT)
signal-integrity model ZY100
pins: 1 A, 2 K

## ZY110
designator D?
Silicon Power Zener Diode; Published: 8-Jun-2000; LatestRevisionDate: 17-Jul-2002; LatestRevisionNote: Re-released for DXP Platform.; DatasheetDocument: 16-May-1997; PackageReference: DO-41B; Publisher: Altium Limited; Code_JEDEC: DO-204-AL; ComponentLink1Description: Manufacturer Link; ComponentLink1URL: http://www.vishay.com/
footprint DO-41B (Diode, Axial; Body 5.2 x 2.7 mm (LxDia. max), Lead Dia. 0.86 mm (max))
simulation model ZY110 (SUBCKT)
signal-integrity model ZY110
pins: 1 A, 2 K

## ZY120
designator D?
Silicon Power Zener Diode; Published: 8-Jun-2000; LatestRevisionDate: 17-Jul-2002; LatestRevisionNote: Re-released for DXP Platform.; DatasheetDocument: 16-May-1997; PackageReference: DO-41B; Publisher: Altium Limited; Code_JEDEC: DO-204-AL; ComponentLink1Description: Manufacturer Link; ComponentLink1URL: http://www.vishay.com/
footprint DO-41B (Diode, Axial; Body 5.2 x 2.7 mm (LxDia. max), Lead Dia. 0.86 mm (max))
simulation model ZY120 (SUBCKT)
signal-integrity model ZY120
pins: 1 A, 2 K

## ZY130
designator D?
Silicon Power Zener Diode; Published: 8-Jun-2000; LatestRevisionDate: 17-Jul-2002; LatestRevisionNote: Re-released for DXP Platform.; DatasheetDocument: 16-May-1997; PackageReference: DO-41B; Publisher: Altium Limited; Code_JEDEC: DO-204-AL; ComponentLink1Description: Manufacturer Link; ComponentLink1URL: http://www.vishay.com/
footprint DO-41B (Diode, Axial; Body 5.2 x 2.7 mm (LxDia. max), Lead Dia. 0.86 mm (max))
simulation model ZY130 (SUBCKT)
signal-integrity model ZY130
pins: 1 A, 2 K

## ZY150
designator D?
Silicon Power Zener Diode; Published: 8-Jun-2000; LatestRevisionDate: 17-Jul-2002; LatestRevisionNote: Re-released for DXP Platform.; DatasheetDocument: 16-May-1997; PackageReference: DO-41B; Publisher: Altium Limited; Code_JEDEC: DO-204-AL; ComponentLink1Description: Manufacturer Link; ComponentLink1URL: http://www.vishay.com/
footprint DO-41B (Diode, Axial; Body 5.2 x 2.7 mm (LxDia. max), Lead Dia. 0.86 mm (max))
simulation model ZY150 (SUBCKT)
signal-integrity model ZY150
pins: 1 A, 2 K

## ZY160
designator D?
Silicon Power Zener Diode; Published: 8-Jun-2000; LatestRevisionDate: 17-Jul-2002; LatestRevisionNote: Re-released for DXP Platform.; DatasheetDocument: 16-May-1997; PackageReference: DO-41B; Publisher: Altium Limited; Code_JEDEC: DO-204-AL; ComponentLink1Description: Manufacturer Link; ComponentLink1URL: http://www.vishay.com/
footprint DO-41B (Diode, Axial; Body 5.2 x 2.7 mm (LxDia. max), Lead Dia. 0.86 mm (max))
simulation model ZY160 (SUBCKT)
signal-integrity model ZY160
pins: 1 A, 2 K

## ZY180
designator D?
Silicon Power Zener Diode; Published: 8-Jun-2000; LatestRevisionDate: 17-Jul-2002; LatestRevisionNote: Re-released for DXP Platform.; DatasheetDocument: 16-May-1997; PackageReference: DO-41B; Publisher: Altium Limited; Code_JEDEC: DO-204-AL; ComponentLink1Description: Manufacturer Link; ComponentLink1URL: http://www.vishay.com/
footprint DO-41B (Diode, Axial; Body 5.2 x 2.7 mm (LxDia. max), Lead Dia. 0.86 mm (max))
simulation model ZY180 (SUBCKT)
signal-integrity model ZY180
pins: 1 A, 2 K

## ZY200
designator D?
Silicon Power Zener Diode; Published: 8-Jun-2000; LatestRevisionDate: 17-Jul-2002; LatestRevisionNote: Re-released for DXP Platform.; DatasheetDocument: 16-May-1997; PackageReference: DO-41B; Publisher: Altium Limited; Code_JEDEC: DO-204-AL; ComponentLink1Description: Manufacturer Link; ComponentLink1URL: http://www.vishay.com/
footprint DO-41B (Diode, Axial; Body 5.2 x 2.7 mm (LxDia. max), Lead Dia. 0.86 mm (max))
simulation model ZY200 (SUBCKT)
signal-integrity model ZY200
pins: 1 A, 2 K